# Altium schematic symbol library PIC16F18323.SchLib: 1 symbol
Pins are listed as number, name and electrical type; pins without a type are passive.

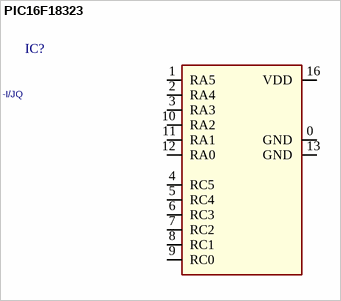
[diagram p0: symbol PIC16F18323]

## PIC16F18323
designator IC?, comment PIC16F18323-I/JQ
PDF: http://www.microchip.com/mymicrochip/filehandler.aspx?ddocname=en568224; PRICE: 0.83000; ID: PIC16F18323-I/JQ; BUY_LINK: http://www.digikey.com/product-detail/en/PIC16F18323-I%2FJQ/PIC16F18323-I%2FJQ-ND/5401250
footprint UQFN-16
pins: 0 GND (power), 1 RA5 (io), 2 RA4 (io), 3 RA3 (io), 4 RC5 (io), 5 RC4 (io), 6 RC3 (io), 7 RC2 (io), 8 RC1 (io), 9 RC0 (io), 10 RA2 (io), 11 RA1 (io), 12 RA0 (io), 13 GND (power), 16 VDD (power)